# EAGLE library part FH12-40S-0.5SH (library TuansLib)
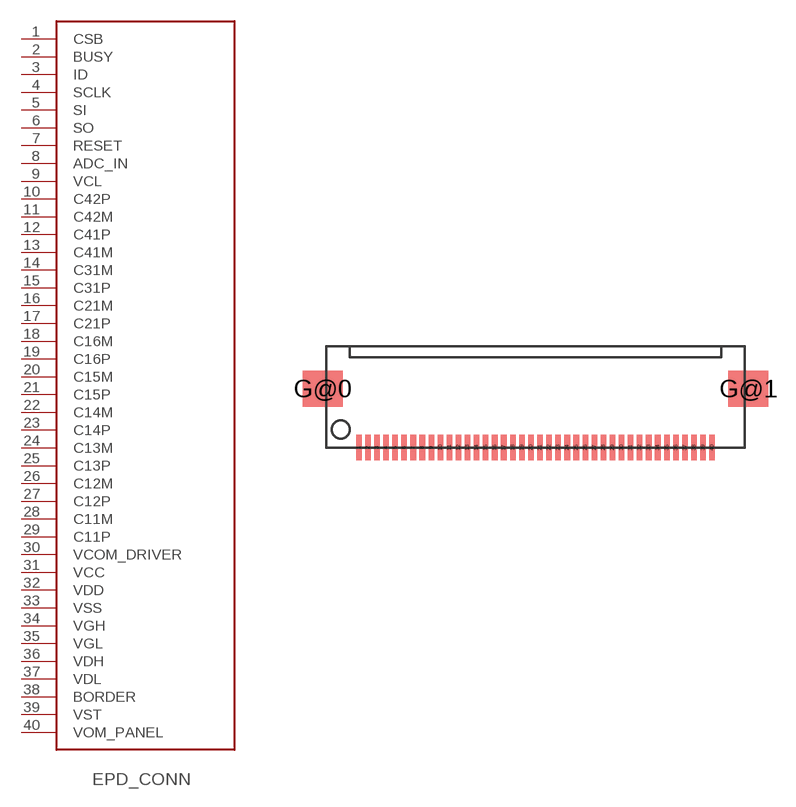
[diagram p12: symbol with the pads of FH12-40S-0.5SH; footprint FH12-40S-0.5SH]

Designator prefix -

## FH12-40S-0.5SH  [FH12-40S-0.5SH]
1  CSB
2  BUSY
3  ID
4  SCLK
5  SI
6  SO
7  RESET
8  ADC_IN
9  VCL
10  C42P
11  C42M
12  C41P
13  C41M
14  C31M
15  C31P
16  C21M
17  C21P
18  C16M
19  C16P
20  C15M
21  C15P
22  C14M
23  C14P
24  C13M
25  C13P
26  C12M
27  C12P
28  C11M
29  C11P
30  VCOM_DRIVER
31  VCC
32  VDD
33  VSS
34  VGH
35  VGL
36  VDH
37  VDL
38  BORDER
39  VST
40  VOM_PANEL

## Footprint FH12-40S-0.5SH (pad centres in mm)
smd 0.31 x 1.4: 1 0,0; 2 0.5,0; 3 1,0; 4 1.5,0; 5 2,0; 6 2.5,0; 7 3,0; 8 3.5,0; 9 4,0; 10 4.5,0; 11 5,0; 12 5.5,0; 13 6,0; 14 6.5,0; 15 7,0; 16 7.5,0; 17 8,0; 18 8.5,0; 19 9,0; 20 9.5,0; 21 10,0; 22 10.5,0; 23 11,0; 24 11.5,0; 25 12,0; 26 12.5,0; 27 13,0; 28 13.5,0; 29 14,0; 30 14.5,0; 31 15,0; 32 15.5,0; 33 16,0; 34 16.5,0; 35 17,0; 36 17.5,0; 37 18,0; 38 18.5,0; 39 19,0; 40 19.5,0
smd 2.2 x 2: G@0 -2,3.25; G@1 21.5,3.25